# EAGLE library part MINI2X5 (library ld-components)
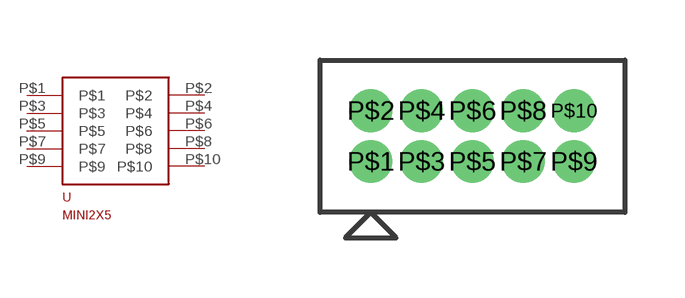
[diagram p4: symbol with the pads of MINI2X5; footprint MINI2X5]

Designator prefix -

## MINI2X5  [MINI2X5]
P$1  P$1
P$2  P$2
P$3  P$3
P$4  P$4
P$5  P$5
P$6  P$6
P$7  P$7
P$8  P$8
P$9  P$9
P$10  P$10

## Footprint MINI2X5 (pad centres in mm)
drill 0.56 pad 1.016: P$1 0,0; P$2 0,1.27; P$3 1.27,0; P$4 1.27,1.27; P$5 2.54,0; P$6 2.54,1.27; P$7 3.81,0; P$8 3.81,1.27; P$9 5.08,0; P$10 5.08,1.27